# EAGLE library part GMSTBV10 (library con-phoenix-762)
PHOENIX
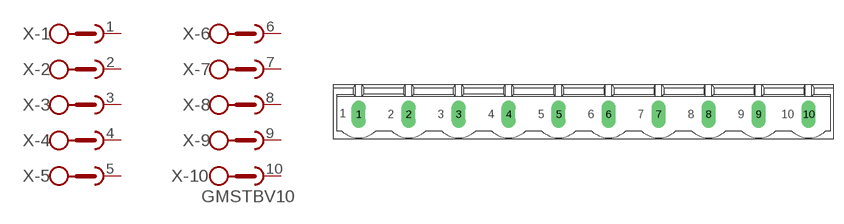
[diagram p5: symbol with the pads of GMSTBV10; footprint GMSTBV10]

Designator prefix X; gates -1=SKB -2=SKB -3=SKB -4=SKB -5=SKB -6=SKB -7=SKB -8=SKB -9=SKB -10=SKBV

## GMSTBV10 (MPN: GMSTBVA2,5/10-G-7,62; OC_FARNELL: 1793086; OC_NEWARK: 69R9519)  [GMSTBV10]
1  -1:1  pas
2  -2:1  pas
3  -3:1  pas
4  -4:1  pas
5  -5:1  pas
6  -6:1  pas
7  -7:1  pas
8  -8:1  pas
9  -9:1  pas
10  -10:1  pas

## Footprint GMSTBV10 (pad centres in mm)
PHOENIX
drill 1.397 long: 1 -34.29,0; 2 -26.67,0; 3 -19.05,0; 4 -11.43,0; 5 -3.81,0; 6 3.81,0; 7 11.43,0; 8 19.05,0; 9 26.67,0; 10 34.29,0